# EAGLE library part ATARI_CARTRIDGE (library Custom)
Male 40x2 PCB Edge connector
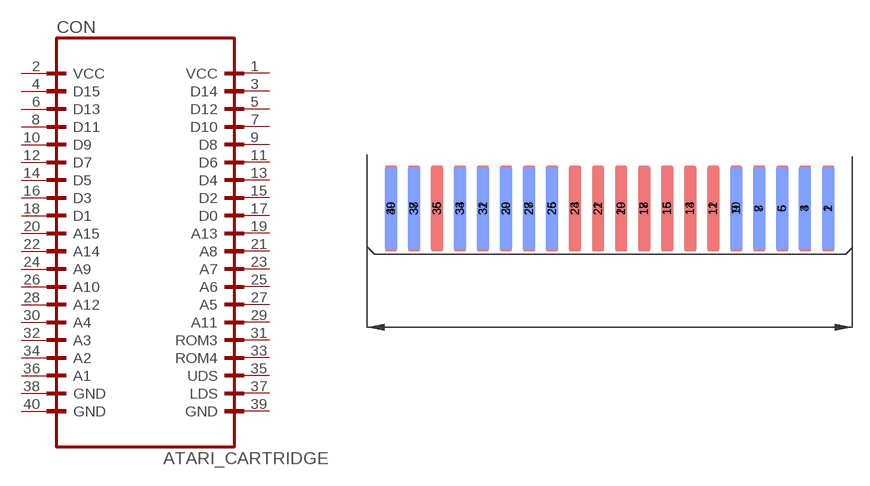
[diagram p55: symbol with the pads of ATARI_CARTRIDGE_PCB; footprint ATARI_CARTRIDGE_PCB]

Designator prefix CON

## ATARI_CARTRIDGE  [ATARI_CARTRIDGE_PCB]
1  VCC  pwr
2  VCC  pwr
3  D14
4  D15
5  D12
6  D13
7  D10
8  D11
9  D8
10  D9
11  D6
12  D7
13  D4
14  D5
15  D2
16  D3
17  D0
18  D1
19  A13  in
20  A15  in
21  A8  in
22  A14  in
23  A7  in
24  A9  in
25  A6  in
26  A10  in
27  A5  in
28  A12  in
29  A11  in
30  A4  in
31  ROM3  in
32  A3  in
33  ROM4  in
34  A2  in
35  UDS  in
36  A1  in
37  LDS  in
38  GND  pwr
39  GND  pwr
40  GND  pwr

## Footprint ATARI_CARTRIDGE_PCB (pad centres in mm)
smd 1.032 x 7: 1 18.891,0.062; 3 16.867,0.062; 5 14.922,0.062; 7 12.938,0.062; 9 10.954,0.062; 11 8.969,0.062; 13 6.985,0.062; 15 5.001,0.062; 17 3.016,0.04; 19 1.032,0.062; 21 -0.953,0.062; 23 -2.937,0.062; 25 -4.921,0.062; 27 -6.906,0.062; 29 -8.89,0.062; 31 -10.874,0.062; 33 -12.859,0.062; 35 -14.843,0.062; 37 -16.828,0.062; 39 -18.812,0.062
smd 1.032 x 7 bottom: 2 18.891,0.062; 4 16.867,0.062; 6 14.922,0.062; 8 12.938,0.062; 10 10.954,0.062; 12 8.969,0.062; 14 6.985,0.062; 16 5.001,0.062; 18 3.016,0.062; 20 1.032,0.062; 22 -0.953,0.062; 24 -2.937,0.062; 26 -4.921,0.062; 28 -6.906,0.062; 30 -8.89,0.062; 32 -10.874,0.062; 34 -12.859,0.062; 36 -14.843,0.062; 38 -16.828,0.062; 40 -18.812,0.062